# EAGLE library part 12_PIN_CON (library 11_pin_connecterp)
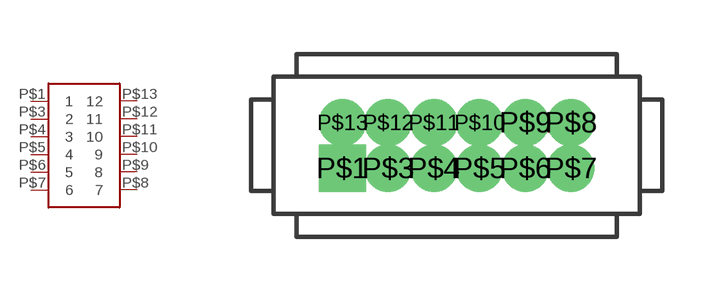
[diagram p2: symbol with the pads of 12_PIN; footprint 12_PIN]

Designator prefix -

## 12_PIN_CON  [12_PIN]
P$1  1
P$3  2
P$4  3
P$5  4
P$6  5
P$7  6
P$8  7
P$9  8
P$10  9
P$11  10
P$12  11
P$13  12

## Footprint 12_PIN (pad centres in mm)
drill 0.8 pad 1.016 square: P$1 -3.175,-0.635
drill 0.8 pad 1.016: P$3 -1.905,-0.635; P$4 -0.635,-0.635; P$5 0.635,-0.635; P$6 1.905,-0.635; P$7 3.175,-0.635; P$8 3.175,0.635; P$9 1.905,0.635; P$10 0.635,0.635; P$11 -0.635,0.635; P$12 -1.905,0.635; P$13 -3.175,0.635